# Altium schematic symbol library LVDS_Board.SchLib: 11 symbols
Pins are listed as number, name and electrical type; pins without a type are passive.

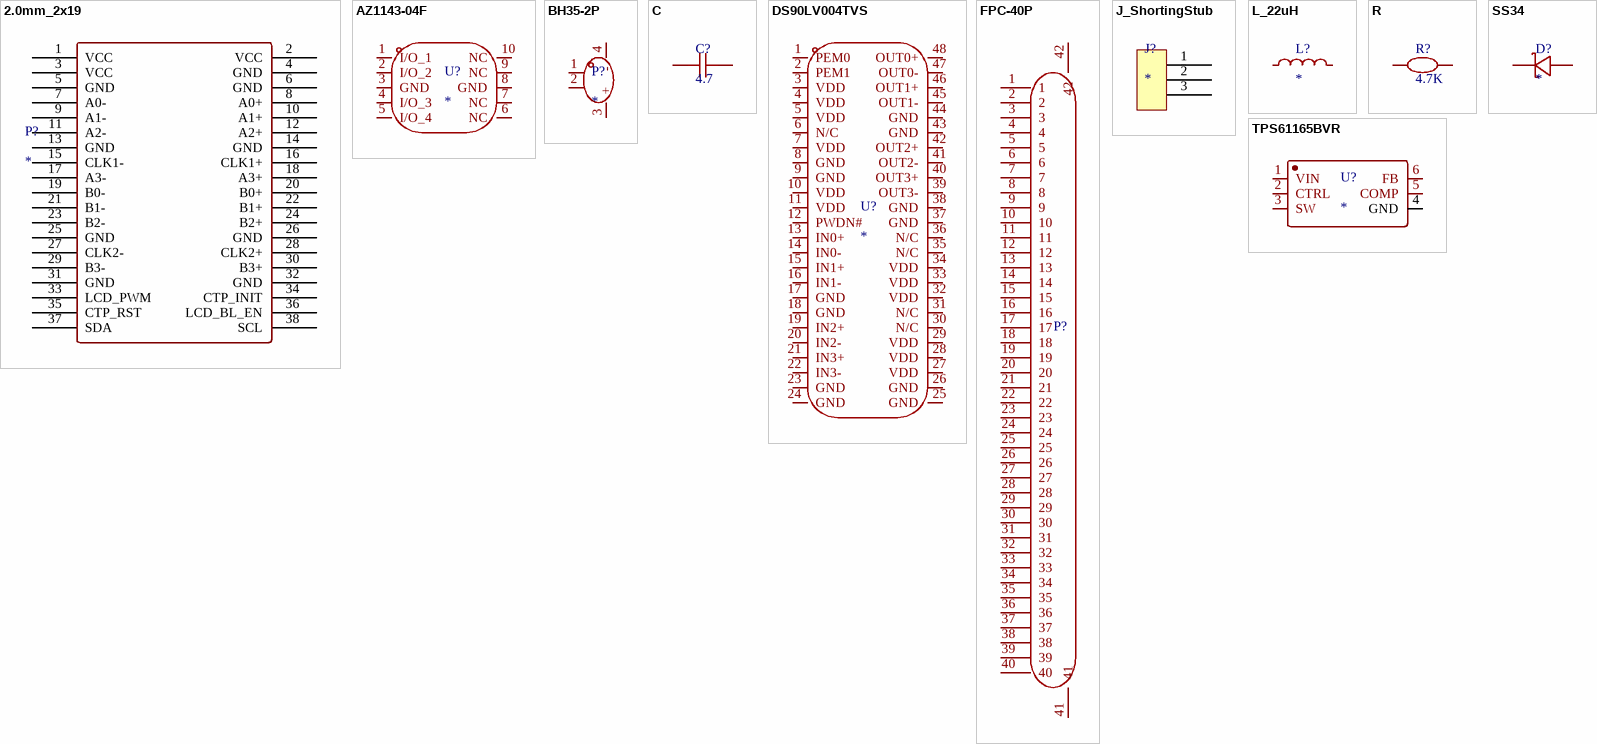
[diagram p0: symbols 2.0mm_2x19 to TPS61165BVR]

## 2.0mm_2x19
designator P?
footprint 2.0mm_2x19
pins: 1 VCC, 2 VCC, 3 VCC, 4 GND, 5 GND, 6 GND, 7 A0-, 8 A0+, 9 A1-, 10 A1+, 11 A2-, 12 A2+, 13 GND, 14 GND, 15 CLK1-, 16 CLK1+, 17 A3-, 18 A3+, 19 B0-, 20 B0+, 21 B1-, 22 B1+, 23 B2-, 24 B2+, 25 GND, 26 GND, 27 CLK2-, 28 CLK2+, 29 B3-, 30 B3+, 31 GND, 32 GND, 33 LCD_PWM, 34 CTP_INIT, 35 CTP_RST, 36 LCD_BL_EN, 37 SDA, 38 SCL

## AZ1143-04F
designator U?
ESD 保护阵列
footprint AZ1143-04F (ESD 保护阵列)
pins: 1 I/O_1, 2 I/O_2, 3 GND, 4 I/O_3, 5 I/O_4, 6 NC, 7 NC, 8 GND, 9 NC, 10 NC

## BH35-2P
designator P?
背光插头
footprint BH35-2P
pins: 1, 2, 3 +, 4 -

## C
designator C?, comment 4.7
footprint C0805
footprint C1206
pins: 1, 2

## DS90LV004TVS
designator U?
footprint TQFP-48
pins: 1 PEM0, 2 PEM1, 3 VDD, 4 VDD, 5 VDD, 6 N/C, 7 VDD, 8 GND, 9 GND, 10 VDD, 11 VDD, 12 PWDN#, 13 IN0+, 14 IN0-, 15 IN1+, 16 IN1-, 17 GND, 18 GND, 19 IN2+, 20 IN2-, 21 IN3+, 22 IN3-, 23 GND, 24 GND, 25 GND, 26 GND, 27 VDD, 28 VDD, 29 VDD, 30 N/C, 31 N/C, 32 VDD, 33 VDD, 34 VDD, 35 N/C, 36 N/C, 37 GND, 38 GND, 39 OUT3-, 40 OUT3+, 41 OUT2-, 42 OUT2+, 43 GND, 44 GND, 45 OUT1-, 46 OUT1+, 47 OUT0-, 48 OUT0+

## FPC-40P
designator P?  (value not drawn)
下接上翻盖
footprint FPC-40P
pins: 1, 2, 3, 4, 5, 6, 7, 8, 9, 10, 11, 12, 13, 14, 15, 16, 17, 18, 19, 20, 21, 22, 23, 24, 25, 26, 27, 28, 29, 30, 31, 32, 33, 34, 35, 36, 37, 38, 39, 40, 41, 42

## J_ShortingStub
designator J?
footprint J_ShortingStub
pins: 1, 2, 3

## L_22uH
designator L?
footprint L_22uH
pins: 1, 2

## R
designator R?, comment 4.7K
footprint C0805
footprint C1206
pins: 1, 2

## SS34
designator D?
肖特基二极管
footprint SS34_2
footprint SS34_1
pins: 1 C, 2 A

## TPS61165BVR
designator U?
TI背光芯片
footprint TPS61165BVT
pins: 1 VIN, 2 CTRL, 3 SW, 4 GND, 5 COMP, 6 FB